# Altium footprint library SRP1265WA2R2M.PcbLib: 1 footprints
Each footprint in its own frame and in the unit in brackets; x right, y up, seen from the top. Pads: shape width x height; smd on the part's side, far side on the other; paste and mask are expansions set on the pad; w line width, h text height; cw(c..) or ccw(c..) is an arc to the next point about the centre after c.
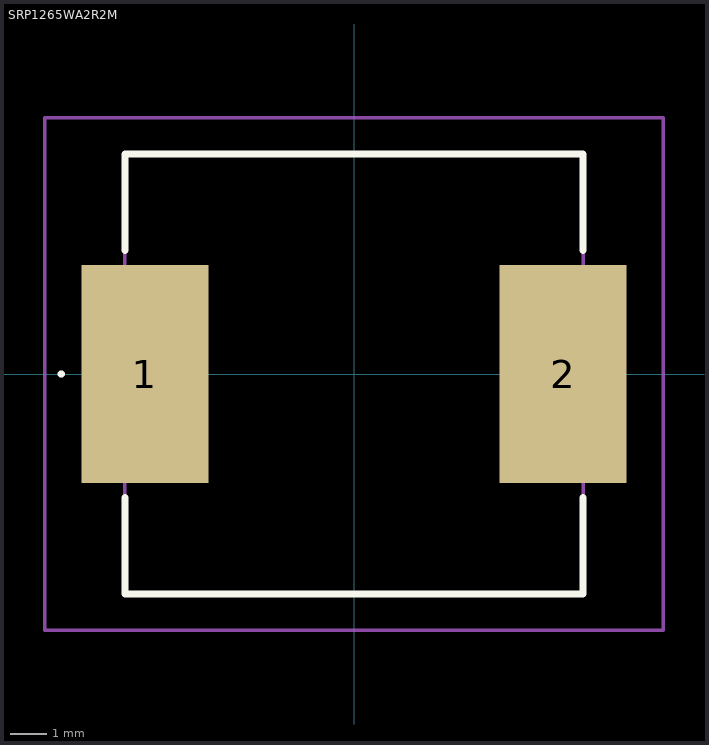
[diagram p0: the footprint, top view; thin cyan lines are the x and y axes]

## SRP1265WA2R2M [mm]
pads (2):
  rect 3.5x6 smd: 1(-5.75,0) 2(5.75,0)
Top Overlay:
  lines w0.1: -8.1,0 -8.1,0 ; -8.1,0 ccw(c-8.05,0) -8,0 ; -8.1,0 cw(c-8.05,0) -8,0 ; -8,0 -8,0
  lines w0.2: -6.3,-3.4 -6.3,-6.05 6.3,-6.05 6.3,-3.4 ; -6.3,3.4 -6.3,6.05 6.3,6.05 6.3,3.4
Mechanical 15:
  lines w0.1: -6.3,-6.05 6.3,-6.05 6.3,6.05 -6.3,6.05 -6.3,-6.05
Mechanical 20:
  lines w0.1: -8.5,-7.05 8.5,-7.05 8.5,7.05 -8.5,7.05 -8.5,-7.05
3D body "SRP1265WA-2R2M.stp": height 5.8, standoff -4.65, extent -10,-3.376 10,3.376